# EAGLE library part ATMEGA328P-32 (library PiB_ic_microcontrollers)
32 pin ATMEGA328P IC
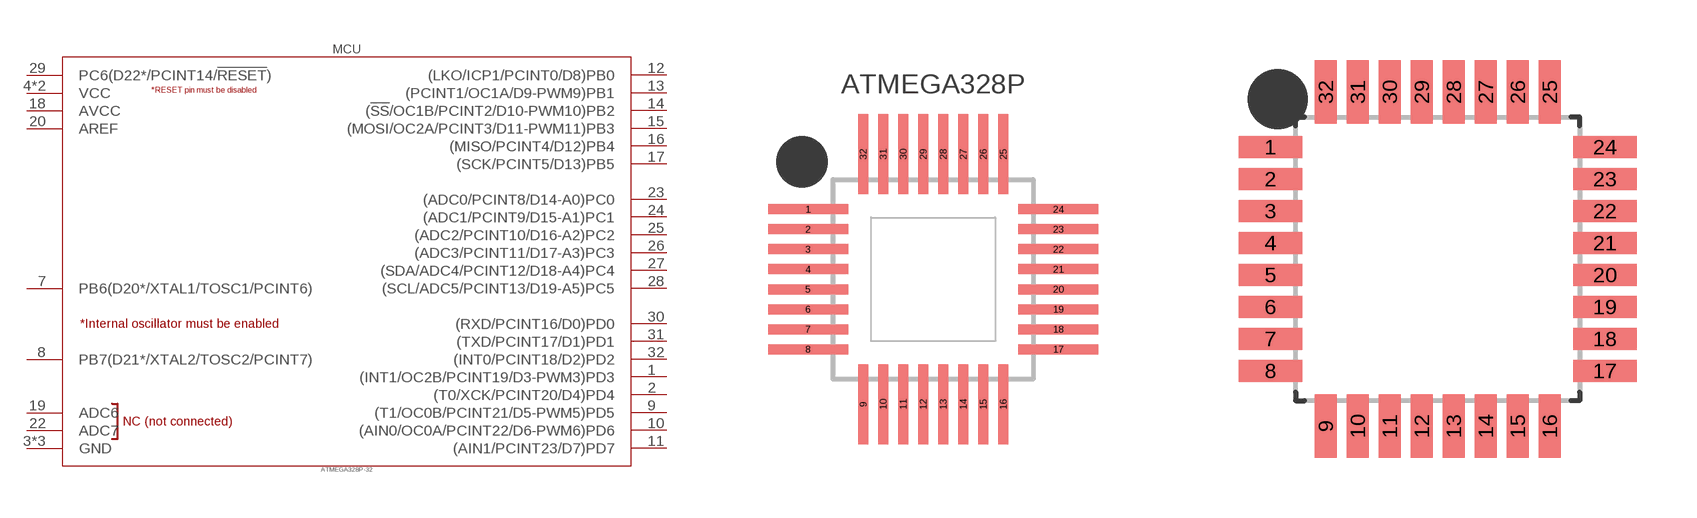
[diagram p2: symbol with the pads of VFQFN-32; footprints VFQFN-32, QFP80P900X900X120-32]

Designator prefix MCU

## ATMEGA328P-32_VFQFN-32_EXPOSED-PAD (CREATOR: Kenmei; DATASHEET: http://www.atmel.com/images/atmel-8271-8-bit-avr-microcontroller-atmega48a-48pa-88a-88pa-168a-168pa-328-328p_datasheet_summary.pdf; DIST: Digikey; DISTLINK: https://www.digikey.com/product-detail/en/microchip-technology/ATMEGA328P-MNR/ATMEGA328P-MNRCT-ND/2774231; DISTPN: ATMEGA328P-MNRCT-ND; MFR: Microchip Technology; MPN: ATMEGA328P-MNR; TESTED: NO)  [VFQFN-32]
1  (INT1/OC2B/PCINT19/D3-PWM3)PD3
2  (T0/XCK/PCINT20/D4)PD4
3  GND  pwr
4  VCC  pwr
5  GND  pwr
6  VCC  pwr
7  PB6(D20*/XTAL1/TOSC1/PCINT6)
8  PB7(D21*/XTAL2/TOSC2/PCINT7)
9  (T1/OC0B/PCINT21/D5-PWM5)PD5
10  (AIN0/OC0A/PCINT22/D6-PWM6)PD6
11  (AIN1/PCINT23/D7)PD7
12  (LKO/ICP1/PCINT0/D8)PB0
13  (PCINT1/OC1A/D9-PWM9)PB1
14  (!SS!/OC1B/PCINT2/D10-PWM10)PB2
15  (MOSI/OC2A/PCINT3/D11-PWM11)PB3
16  (MISO/PCINT4/D12)PB4
17  (SCK/PCINT5/D13)PB5
18  AVCC  pwr
19  ADC6  nc
20  AREF  pas
21  GND  pwr
22  ADC7  nc
23  (ADC0/PCINT8/D14-A0)PC0
24  (ADC1/PCINT9/D15-A1)PC1
25  (ADC2/PCINT10/D16-A2)PC2
26  (ADC3/PCINT11/D17-A3)PC3
27  (SDA/ADC4/PCINT12/D18-A4)PC4
28  (SCL/ADC5/PCINT13/D19-A5)PC5
29  PC6(D22*/PCINT14/!RESET!)
30  (RXD/PCINT16/D0)PD0
31  (TXD/PCINT17/D1)PD1
32  (INT0/PCINT18/D2)PD2

## ATMEGA328P-32_TQFP-32_ATMEGA328P (DATASHEET: http://ww1.microchip.com/downloads/en/DeviceDoc/Atmel-42735-8-bit-AVR-Microcontroller-ATmega328-328P_Datasheet.pdf; DATASHEET2: http://ww1.microchip.com/downloads/en/DeviceDoc/Atmel-42735-8-bit-AVR-Microcontroller-ATmega328-328P_Summary.pdf; DIST: Digikey; DISTLINK: https://www.digikey.com/products/en?keywords=ATMEGA328P-AU-ND; DISTPN: ATMEGA328P-AU-ND; MFR: Microchip Technology; MPN: ATMEGA328P-AU; VALUE: ATMEGA328p)  [QFP80P900X900X120-32]
Pads as for VFQFN-32

## Footprint VFQFN-32 (pad centres in mm)
smd 2 x 0.25: 1 -3.13,1.751; 2 -3.13,1.251; 3 -3.13,0.751; 4 -3.13,0.25; 5 -3.13,-0.25; 6 -3.13,-0.751; 7 -3.13,-1.251; 8 -3.13,-1.751; 17 3.13,-1.751; 18 3.13,-1.251; 19 3.13,-0.751; 20 3.13,-0.25; 21 3.13,0.25; 22 3.13,0.751; 23 3.13,1.251; 24 3.13,1.751
smd 0.25 x 2: 9 -1.751,-3.13; 10 -1.251,-3.13; 11 -0.751,-3.13; 12 -0.25,-3.13; 13 0.25,-3.13; 14 0.751,-3.13; 15 1.251,-3.13; 16 1.751,-3.13; 25 1.751,3.13; 26 1.251,3.13; 27 0.751,3.13; 28 0.25,3.13; 29 -0.25,3.13; 30 -0.751,3.13; 31 -1.251,3.13; 32 -1.751,3.13

## Footprint QFP80P900X900X120-32 (pad centres in mm)
32-QFP, 0.8 mm pitch, 9 mm span, 7 X 7 X 1.2 mm body 32-pin QFP package with 0.8 mm pitch, 9 mm lead span1 X 9 mm lead span2 with body size 7 X 7 X 1.2 mm
smd 1.6 x 0.547: 1 -4.181,2.8; 2 -4.181,2; 3 -4.181,1.2; 4 -4.181,0.4; 5 -4.181,-0.4; 6 -4.181,-1.2; 7 -4.181,-2; 8 -4.181,-2.8; 17 4.181,-2.8; 18 4.181,-2; 19 4.181,-1.2; 20 4.181,-0.4; 21 4.181,0.4; 22 4.181,1.2; 23 4.181,2; 24 4.181,2.8
smd 0.547 x 1.6: 9 -2.8,-4.181; 10 -2,-4.181; 11 -1.2,-4.181; 12 -0.4,-4.181; 13 0.4,-4.181; 14 1.2,-4.181; 15 2,-4.181; 16 2.8,-4.181; 25 2.8,4.181; 26 2,4.181; 27 1.2,4.181; 28 0.4,4.181; 29 -0.4,4.181; 30 -1.2,4.181; 31 -2,4.181; 32 -2.8,4.181